# EAGLE library part BSP742R (library mosfet-infineon)
BSP742R Smart High-Side Power Switch, VBB 40V, R(ON) 350mOhm SOIC127P600X175-8N-3
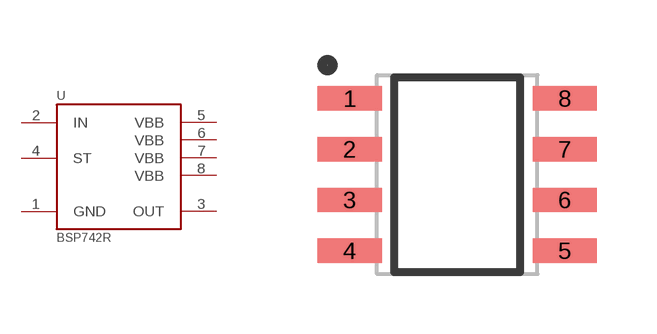
[diagram p39: symbol with the pads of SOIC127P600X175-8N-3; footprint SOIC127P600X175-8N-3]

Designator prefix -

## BSP742R  [SOIC127P600X175-8N-3]
1  GND  pwr
2  IN  in
3  OUT  out
4  ST  oc
5  VBB  pwr
6  VBB  pwr
7  VBB  pwr
8  VBB  pwr

## Footprint SOIC127P600X175-8N-3 (pad centres in mm)
Original name SOIC127P600X175-8N-3 Max Component Height - 1.75mm
smd 1.6 x 0.61: 1 -2.692,1.905; 2 -2.692,0.635; 3 -2.692,-0.635; 4 -2.692,-1.905; 5 2.692,-1.905; 6 2.692,-0.635; 7 2.692,0.635; 8 2.692,1.905